# Altium footprint library транзисторы.PcbLib: 29 footprints (part 2 of 2)
Each footprint in its own frame and in the unit in brackets; x right, y up, seen from the top. Pads: shape width x height; smd on the part's side, far side on the other; paste and mask are expansions set on the pad; w line width, h text height; cw(c..) or ccw(c..) is an arc to the next point about the centre after c.
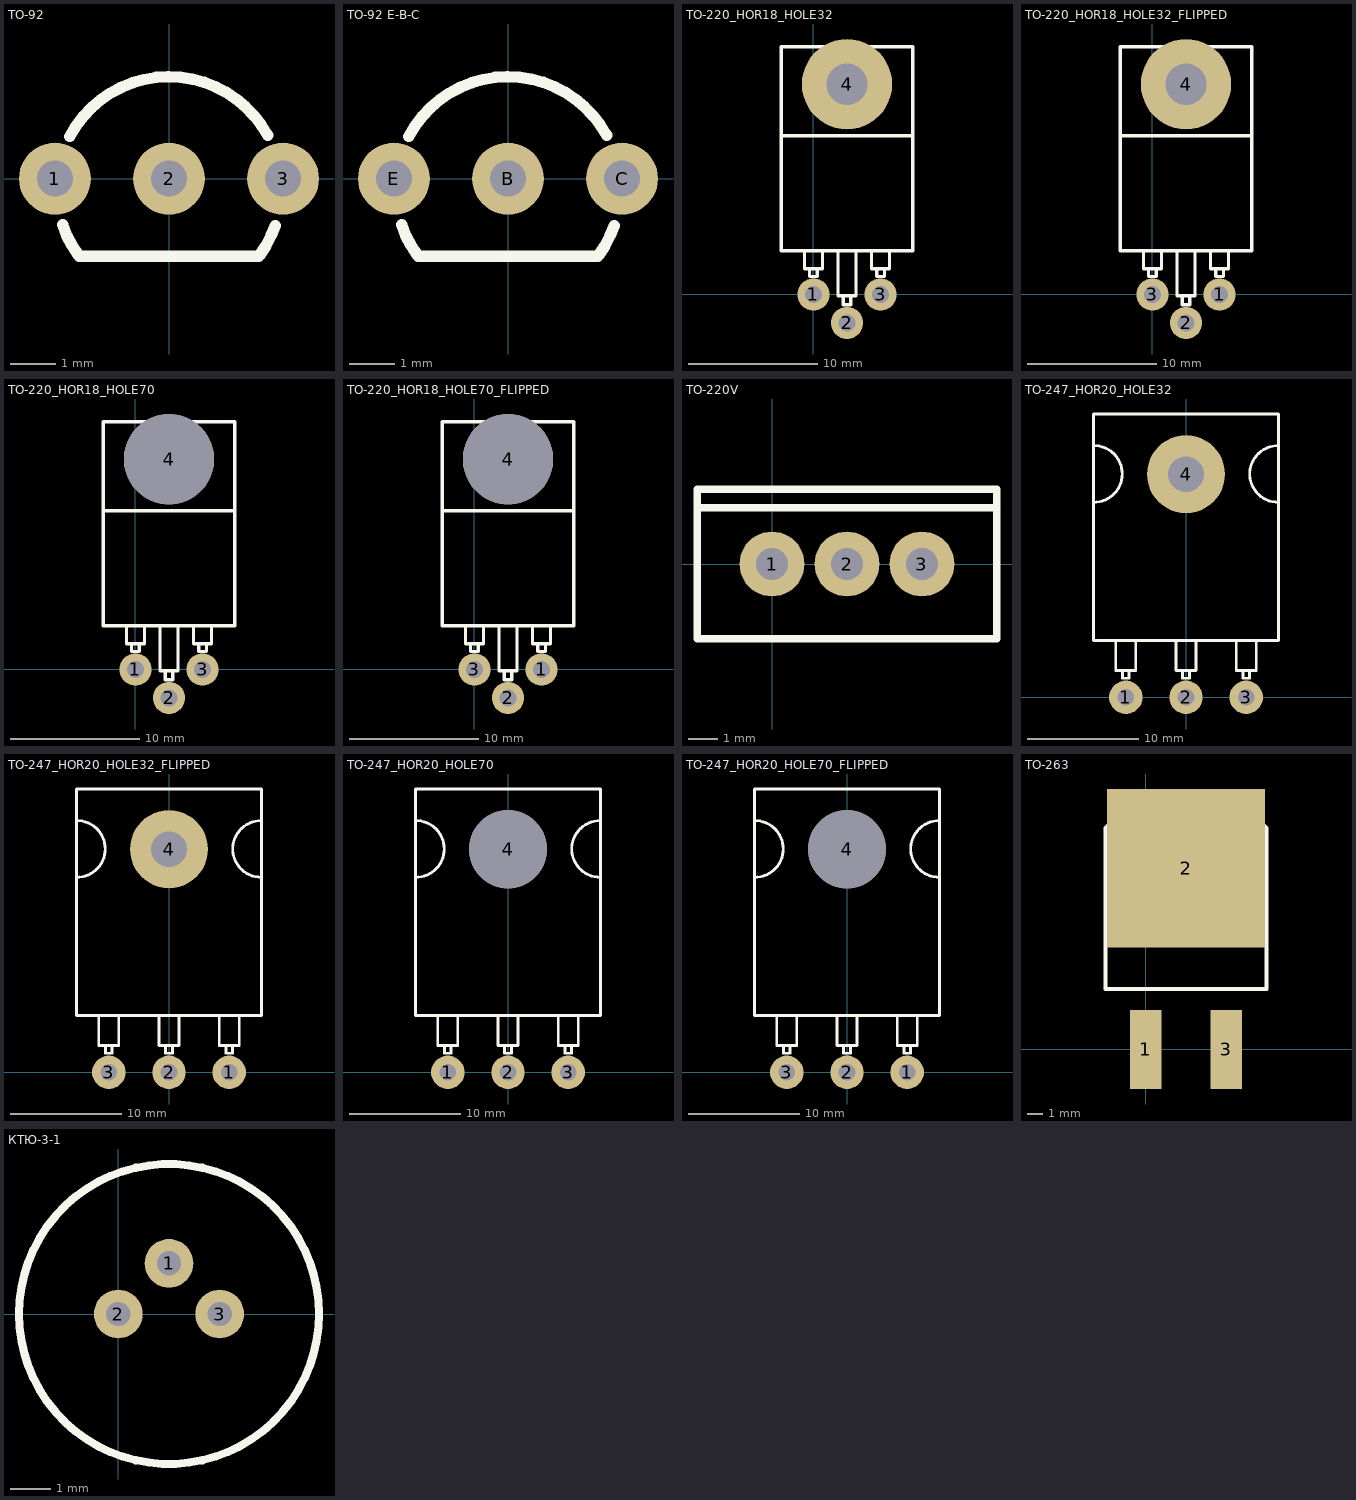
[diagram p1: the footprints below, top view; thin cyan lines are the x and y axes]

## TO-92 [mm]
pads (3):
  round 1.6 hole 0.8: 1(-2.54,0) 2(0,0) 3(2.54,0)
Top Overlay:
  lines w0.254: -2.369,-1.027 ccw(c0,-0.23) -2.015,-1.71 ; -2.209,0.94 cw(c0,-0.23) 2.197,0.963 ; -2,-1.73 2,-1.73 ; 2.028,-1.692 ccw(c0,-0.23) 2.362,-1.048
3D body "ALSRobot-TO-92W.SLDPRT": height 9.7, standoff -1.6, extent -2.765,-1.55 2.765,2.55

## TO-92 E-B-C [mm]
pads (3):
  round 1.6 hole 0.8: B(0,0) C(2.54,0) E(-2.54,0)
Top Overlay:
  lines w0.254: -2.369,-1.027 ccw(c0,-0.23) -2.015,-1.71 ; -2.209,0.94 cw(c0,-0.23) 2.197,0.963 ; -2,-1.73 2,-1.73 ; 2.028,-1.692 ccw(c0,-0.23) 2.362,-1.048
3D body "ALSRobot-TO-92W.SLDPRT": height 9.7, standoff -1.6, extent -2.765,-1.55 2.765,2.55

## TO-220_HOR18_HOLE32 [mm]
pads (4):
  round 2.5 hole 1.3: 1(0,0) 2(2.6,-2.2) 3(5.2,0)
  round 7 hole 3.2: 4(2.6,16.3)
Top Overlay:
  lines w0.254: -2.5,12.3 7.7,12.3 ; -0.7,3.4 -0.7,2 0.7,2 0.7,3.4 ; -0.3,2 -0.3,1.4 0.3,1.4 0.3,2 ; 1.9,3.4 1.9,-0.1 3.3,-0.1 3.3,3.4 ; 2.3,-0.1 2.3,-0.8 2.9,-0.8 2.9,-0.1 ; 4.5,3.4 4.5,2 5.9,2 5.9,3.4 ; 4.9,2 4.9,1.4 5.5,1.4 5.5,2 ; -2.5,3.4 -2.5,19.2 7.7,19.2 7.7,3.4 -2.5,3.4

## TO-220_HOR18_HOLE32_FLIPPED [mm]
pads (4):
  round 2.5 hole 1.3: 1(5.2,0) 2(2.6,-2.2) 3(0,0)
  round 7 hole 3.2: 4(2.6,16.3)
Top Overlay:
  lines w0.254: -2.5,12.3 7.7,12.3 ; -0.7,3.4 -0.7,2 0.7,2 0.7,3.4 ; -0.3,2 -0.3,1.4 0.3,1.4 0.3,2 ; 1.9,3.4 1.9,-0.1 3.3,-0.1 3.3,3.4 ; 2.3,-0.1 2.3,-0.8 2.9,-0.8 2.9,-0.1 ; 4.5,3.4 4.5,2 5.9,2 5.9,3.4 ; 4.9,2 4.9,1.4 5.5,1.4 5.5,2 ; -2.5,3.4 7.7,3.4 7.7,19.2 -2.5,19.2 -2.5,3.4

## TO-220_HOR18_HOLE70 [mm]
pads (4):
  round 2.5 hole 1.3: 1(0,0) 2(2.6,-2.2) 3(5.2,0)
  round 7 hole 7: 4(2.6,16.3)
Top Overlay:
  lines w0.254: -2.5,12.3 7.7,12.3 ; -0.7,3.4 -0.7,2 0.7,2 0.7,3.4 ; -0.3,2 -0.3,1.4 0.3,1.4 0.3,2 ; 1.9,3.4 1.9,-0.1 3.3,-0.1 3.3,3.4 ; 2.3,-0.1 2.3,-0.8 2.9,-0.8 2.9,-0.1 ; 4.5,3.4 4.5,2 5.9,2 5.9,3.4 ; 4.9,2 4.9,1.4 5.5,1.4 5.5,2 ; -2.5,3.4 7.7,3.4 7.7,19.2 -2.5,19.2 -2.5,3.4

## TO-220_HOR18_HOLE70_FLIPPED [mm]
pads (4):
  round 2.5 hole 1.3: 1(5.2,0) 2(2.6,-2.2) 3(0,0)
  round 7 hole 7: 4(2.6,16.3)
Top Overlay:
  lines w0.254: -2.5,12.3 7.7,12.3 ; -0.7,3.4 -0.7,2 0.7,2 0.7,3.4 ; -0.3,2 -0.3,1.4 0.3,1.4 0.3,2 ; 1.9,3.4 1.9,-0.1 3.3,-0.1 3.3,3.4 ; 2.3,-0.1 2.3,-0.8 2.9,-0.8 2.9,-0.1 ; 4.5,3.4 4.5,2 5.9,2 5.9,3.4 ; 4.9,2 4.9,1.4 5.5,1.4 5.5,2 ; -2.5,3.4 7.7,3.4 7.7,19.2 -2.5,19.2 -2.5,3.4

## TO-220V [mm]
pads (3):
  round 2.2 hole 1.1: 1(0,0) 2(2.54,0) 3(5.08,0)
Top Overlay:
  lines w0.254: -2.54,1.905 7.62,1.905 ; -2.54,-2.54 7.62,-2.54 7.62,2.54 -2.54,2.54 -2.54,-2.54

## TO-247_HOR20_HOLE32 [mm]
pads (4):
  round 3 hole 1.5: 1(-5.4,0) 2(0,0) 3(5.4,0)
  round 7 hole 3.2: 4(0,20)
Top Overlay:
  circle w0.254: c0,20.025 r2
  lines w0.254: -8.304,17.485 ccw(c-8.255,20.025) -8.299,22.565 ; -6.3,5.1 -6.3,2.4 -4.5,2.4 -4.5,5.1 ; -5.7,2.4 -5.7,1.7 -5.1,1.7 -5.1,2.4 ; -0.9,5.1 -0.9,2.4 0.9,2.4 0.9,5.1 ; -0.3,2.4 -0.3,1.7 0.3,1.7 0.3,2.4 ; 4.5,5.1 4.5,2.4 6.3,2.4 6.3,5.1 ; 5.1,2.4 5.1,1.7 5.7,1.7 5.7,2.4 ; 8.299,17.485 cw(c8.255,20.025) 8.299,22.565 ; -8.3,5.1 8.3,5.1 8.3,25.4 -8.3,25.4 -8.3,5.1

## TO-247_HOR20_HOLE32_FLIPPED [mm]
pads (4):
  round 3 hole 1.5: 1(5.4,0) 2(0,0) 3(-5.4,0)
  round 7 hole 3.2: 4(0,20)
Top Overlay:
  circle w0.254: c0,20.025 r2
  lines w0.254: -8.304,17.485 ccw(c-8.255,20.025) -8.299,22.565 ; -6.3,5.1 -6.3,2.4 -4.5,2.4 -4.5,5.1 ; -5.7,2.4 -5.7,1.7 -5.1,1.7 -5.1,2.4 ; -0.9,5.1 -0.9,2.4 0.9,2.4 0.9,5.1 ; -0.3,2.4 -0.3,1.7 0.3,1.7 0.3,2.4 ; 4.5,5.1 4.5,2.4 6.3,2.4 6.3,5.1 ; 5.1,2.4 5.1,1.7 5.7,1.7 5.7,2.4 ; 8.299,17.485 cw(c8.255,20.025) 8.299,22.565 ; -8.3,5.1 8.3,5.1 8.3,25.4 -8.3,25.4 -8.3,5.1

## TO-247_HOR20_HOLE70 [mm]
pads (4):
  round 3 hole 1.5: 1(-5.4,0) 2(0,0) 3(5.4,0)
  round 7 hole 7: 4(0,20)
Top Overlay:
  circle w0.254: c0,20.025 r2
  lines w0.254: -8.304,17.485 ccw(c-8.255,20.025) -8.299,22.565 ; -6.3,5.1 -6.3,2.4 -4.5,2.4 -4.5,5.1 ; -5.7,2.4 -5.7,1.7 -5.1,1.7 -5.1,2.4 ; -0.9,5.1 -0.9,2.4 0.9,2.4 0.9,5.1 ; -0.3,2.4 -0.3,1.7 0.3,1.7 0.3,2.4 ; 4.5,5.1 4.5,2.4 6.3,2.4 6.3,5.1 ; 5.1,2.4 5.1,1.7 5.7,1.7 5.7,2.4 ; 8.299,17.485 cw(c8.255,20.025) 8.299,22.565 ; -8.3,5.1 -8.3,25.4 8.3,25.4 8.3,5.1 -8.3,5.1

## TO-247_HOR20_HOLE70_FLIPPED [mm]
pads (4):
  round 3 hole 1.5: 1(5.4,0) 2(0,0) 3(-5.4,0)
  round 7 hole 7: 4(0,20)
Top Overlay:
  circle w0.254: c0,20.025 r2
  lines w0.254: -8.304,17.485 ccw(c-8.255,20.025) -8.299,22.565 ; -6.3,5.1 -6.3,2.4 -4.5,2.4 -4.5,5.1 ; -5.7,2.4 -5.7,1.7 -5.1,1.7 -5.1,2.4 ; -0.9,5.1 -0.9,2.4 0.9,2.4 0.9,5.1 ; -0.3,2.4 -0.3,1.7 0.3,1.7 0.3,2.4 ; 4.5,5.1 4.5,2.4 6.3,2.4 6.3,5.1 ; 5.1,2.4 5.1,1.7 5.7,1.7 5.7,2.4 ; 8.299,17.485 cw(c8.255,20.025) 8.299,22.565 ; -8.3,5.1 8.3,5.1 8.3,25.4 -8.3,25.4 -8.3,5.1

## TO-263 [mm]
pads (3):
  rect 2x5 smd: 1(0,0) 3(5.08,0)
  rect 10x10 smd: 2(2.54,11.43)
Top Overlay:
  lines w0.254: -2.54,13.97 -1.27,15.24 6.35,15.24 7.62,13.97 ; -2.54,13.97 -2.54,3.81 7.62,3.81 7.62,13.97 ; -2.54,13.97 7.62,13.97

## КТЮ-3-1 [mm]
pads (3):
  round 1.2 hole 0.6: 1(1.25,1.25) 2(0,0) 3(2.5,0)
Top Overlay:
  circle w0.2: c1.25,0 r3.7
3D body "User Library-KTU-3-1 (КТ312).SLDPRT": height 6.85, standoff -0.85, extent -2.4,-3.65 4.9,3.65